# Altium footprint library OSP_DJB_Rigid.PcbLib: 18 footprints (part 2 of 2)
Each footprint in its own frame and in the unit in brackets; x right, y up, seen from the top. Pads: shape width x height; smd on the part's side, far side on the other; paste and mask are expansions set on the pad; w line width, h text height; cw(c..) or ccw(c..) is an arc to the next point about the centre after c.
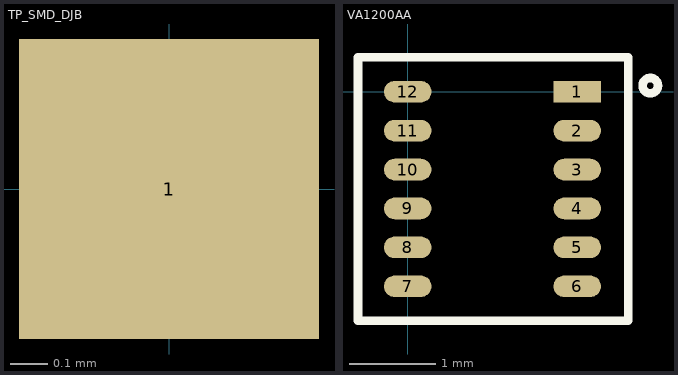
[diagram p1: the footprints below, top view; thin cyan lines are the x and y axes]

## TP_SMD_DJB [mm] "DJB style test point"
pads (1):
  rect 0.8x0.8 smd: 1(0,0)

## VA1200AA [mm]
pads (12):
  rect 0.55x0.25 smd mask+0.07: 1(1.96,0)
  oval 0.55x0.25 smd mask+0.07: 2(1.96,-0.45) 3(1.96,-0.9) 4(1.96,-1.35) 5(1.96,-1.8) 6(1.96,-2.25) 7(0,-2.25) 8(0,-1.8) 9(0,-1.35) 10(0,-0.9) 11(0,-0.45) 12(0,0)
Top Overlay:
  lines w0.1: 2.869,0.132 ccw(c2.805,0.07) 2.875,0.125 ; -0.575,-2.65 2.55,-2.65 2.55,0.4 0.942,0.4 -0.575,0.4 -0.575,-2.65
3D body "User Library-SPV084LR5H-1_RevC.sldprt": height 0.93, standoff 0.01, extent 0.1,-2.5 1.95,0.25